# Altium schematic symbol library semiconductors.SchLib: 1 symbol
Pins are listed as number, name and electrical type; pins without a type are passive.

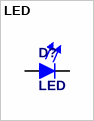
[diagram p0: symbol LED]

## LED
designator D?
Published: 26-Mar-2006
footprint LED_5mm_nospacing
footprint LED_5mm
footprint LED_5mm_sidemounted_green
footprint LED_5mm_sidemounted_red
footprint LED_3mm_longpins_red
pins: 1 A, 2 K